# Altium footprint library UPW1V101MPD.PcbLib: 1 footprints
Each footprint in its own frame and in the unit in brackets; x right, y up, seen from the top. Pads: shape width x height; smd on the part's side, far side on the other; paste and mask are expansions set on the pad; w line width, h text height; cw(c..) or ccw(c..) is an arc to the next point about the centre after c.
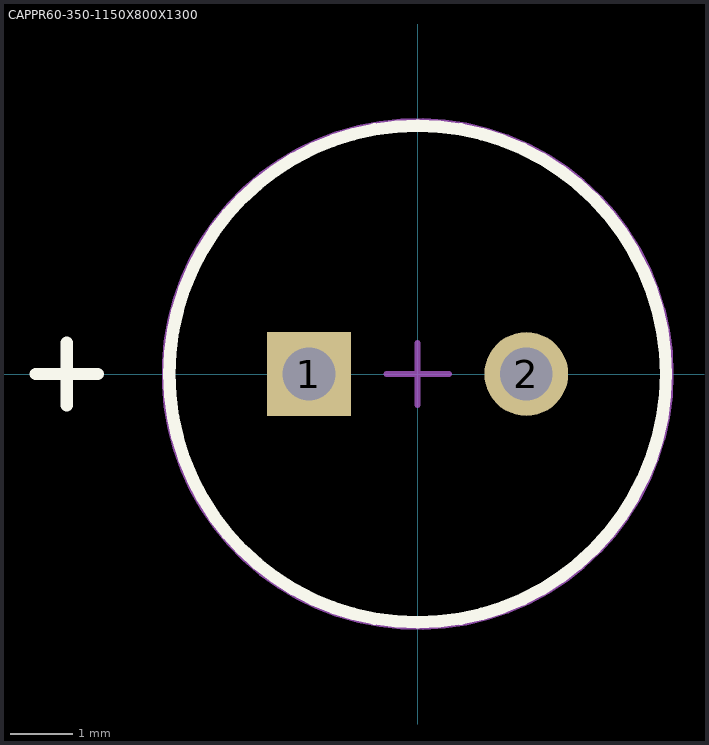
[diagram p0: the footprint, top view; thin cyan lines are the x and y axes]

## CAPPR60-350-1150X800X1300 [mm] "THD, 2-Leads, Dia 8mm, Body Length 11.5mm"
height 13
pads (2):
  rect 1.35x1.35 hole 0.85: 1(-1.75,0)
  round 1.35 hole 0.85: 2(1.75,0)
Top Overlay:
  circle w0.2: c0,0 r4
  lines w0.2: -6.15,0 -5.15,0 ; -5.65,-0.5 -5.65,0.5
Mechanical 13:
  circle w0.1: c0,0 r4
Mechanical 15:
  circle w0.05: c0,0 r4.1
  lines w0.1: -0.5,0 0.5,0 ; 0,-0.5 0,0.5
3D body: height 13, standoff 0, extent -4,-3.998 4,3.999